# Altium schematic symbol library STM32F103.SchLib: 1 symbol
Pins are listed as number, name and electrical type; pins without a type are passive.

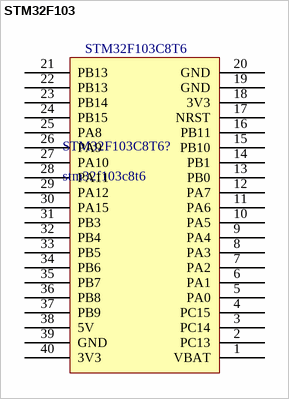
[diagram p0: symbol STM32F103]

## STM32F103
designator STM32F103C8T6?, comment stm32f103c8t6
footprint STM32F103
pins: 1 VBAT, 2 PC13, 3 PC14, 4 PC15, 5 PA0, 6 PA1, 7 PA2, 8 PA3, 9 PA4, 10 PA5, 11 PA6, 12 PA7, 13 PB0, 14 PB1, 15 PB10, 16 PB11, 17 NRST, 18 3V3, 19 GND, 20 GND, 21 PB13, 22 PB13, 23 PB14, 24 PB15, 25 PA8, 26 PA9, 27 PA10, 28 PA11, 29 PA12, 30 PA15, 31 PB3, 32 PB4, 33 PB5, 34 PB6, 35 PB7, 36 PB8, 37 PB9, 38 5V, 39 GND, 40 3V3
text: STM32F103C8T6